# EAGLE library part HEADER-11X02 (library wicker)
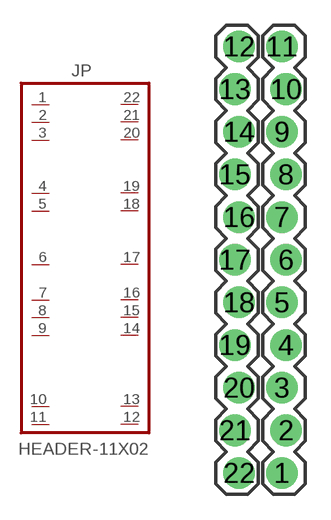
[diagram p0: symbol with the pads of HEADER-11X02; footprint HEADER-11X02]

Designator prefix JP

## HEADER-11X02  [HEADER-11X02]
1  1  pas
2  2  pas
3  3  pas
4  4  pas
5  5  pas
6  6  pas
7  7  pas
8  8  pas
9  9  pas
10  10  pas
11  11  pas
12  12  pas
13  13  pas
14  14  pas
15  15  pas
16  16  pas
17  17  pas
18  18  pas
19  19  pas
20  20  pas
21  21  pas
22  22  pas

## Footprint HEADER-11X02 (pad centres in mm)
drill 1.016 pad 1.88: 1 1.143,-12.446; 2 1.397,-9.906; 3 1.143,-7.366; 4 1.397,-4.826; 5 1.143,-2.286; 6 1.397,0.254; 7 1.143,2.794; 8 1.397,5.334; 9 1.143,7.874; 10 1.397,10.414; 11 1.143,12.954; 12 -1.397,12.954; 13 -1.651,10.414; 14 -1.397,7.874; 15 -1.651,5.334; 16 -1.397,2.794; 17 -1.651,0.254; 18 -1.397,-2.286; 19 -1.651,-4.826; 20 -1.397,-7.366; 21 -1.651,-9.906; 22 -1.397,-12.446